# Altium schematic symbol library Ballast and Depth Controller Library.SchLib: 2 symbols
Pins are listed as number, name and electrical type; pins without a type are passive.

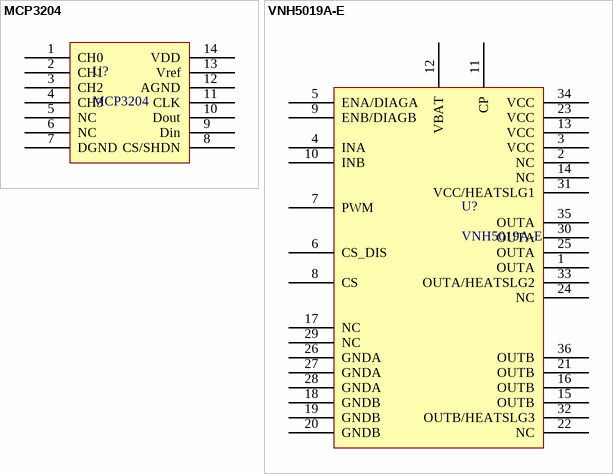
[diagram p0: symbols MCP3204 to VNH5019A-E]

## MCP3204
designator U?
MCP3204 ADC
footprint MCP3204 (SOIC, 14-Leads, Body 8.8x4.0mm (max), Pitch 1.27mm, IPC Medium Density)
pins: 1 CH0, 2 CH1, 3 CH2, 4 CH3, 5 NC, 6 NC, 7 DGND, 8 CS/SHDN, 9 Din, 10 Dout, 11 CLK, 12 AGND, 13 Vref, 14 VDD

## VNH5019A-E
designator U?
VNH5019A-E H-Bridge
footprint VNH5019A-E (STMicroelectronics VNH5019A-E H-Bridge)
pins: 1 OUTA, 2 NC, 3 VCC, 4 INA, 5 ENA/DIAGA, 6 CS_DIS, 7 PWM, 8 CS, 9 ENB/DIAGB, 10 INB, 11 CP, 12 VBAT, 13 VCC, 14 NC, 15 OUTB, 16 OUTB, 17 NC, 18 GNDB, 19 GNDB, 20 GNDB, 21 OUTB, 22 NC, 23 VCC, 24 NC, 25 OUTA, 26 GNDA, 27 GNDA, 28 GNDA, 29 NC, 30 OUTA, 31 VCC/HEATSLG1, 32 OUTB/HEATSLG3, 33 OUTA/HEATSLG2, 34 VCC, 35 OUTA, 36 OUTB